# Altium footprint library 电容.PcbLib: 62 footprints (part 4 of 4)
Each footprint in its own frame and in the unit in brackets; x right, y up, seen from the top. Pads: shape width x height; smd on the part's side, far side on the other; paste and mask are expansions set on the pad; w line width, h text height; cw(c..) or ccw(c..) is an arc to the next point about the centre after c.
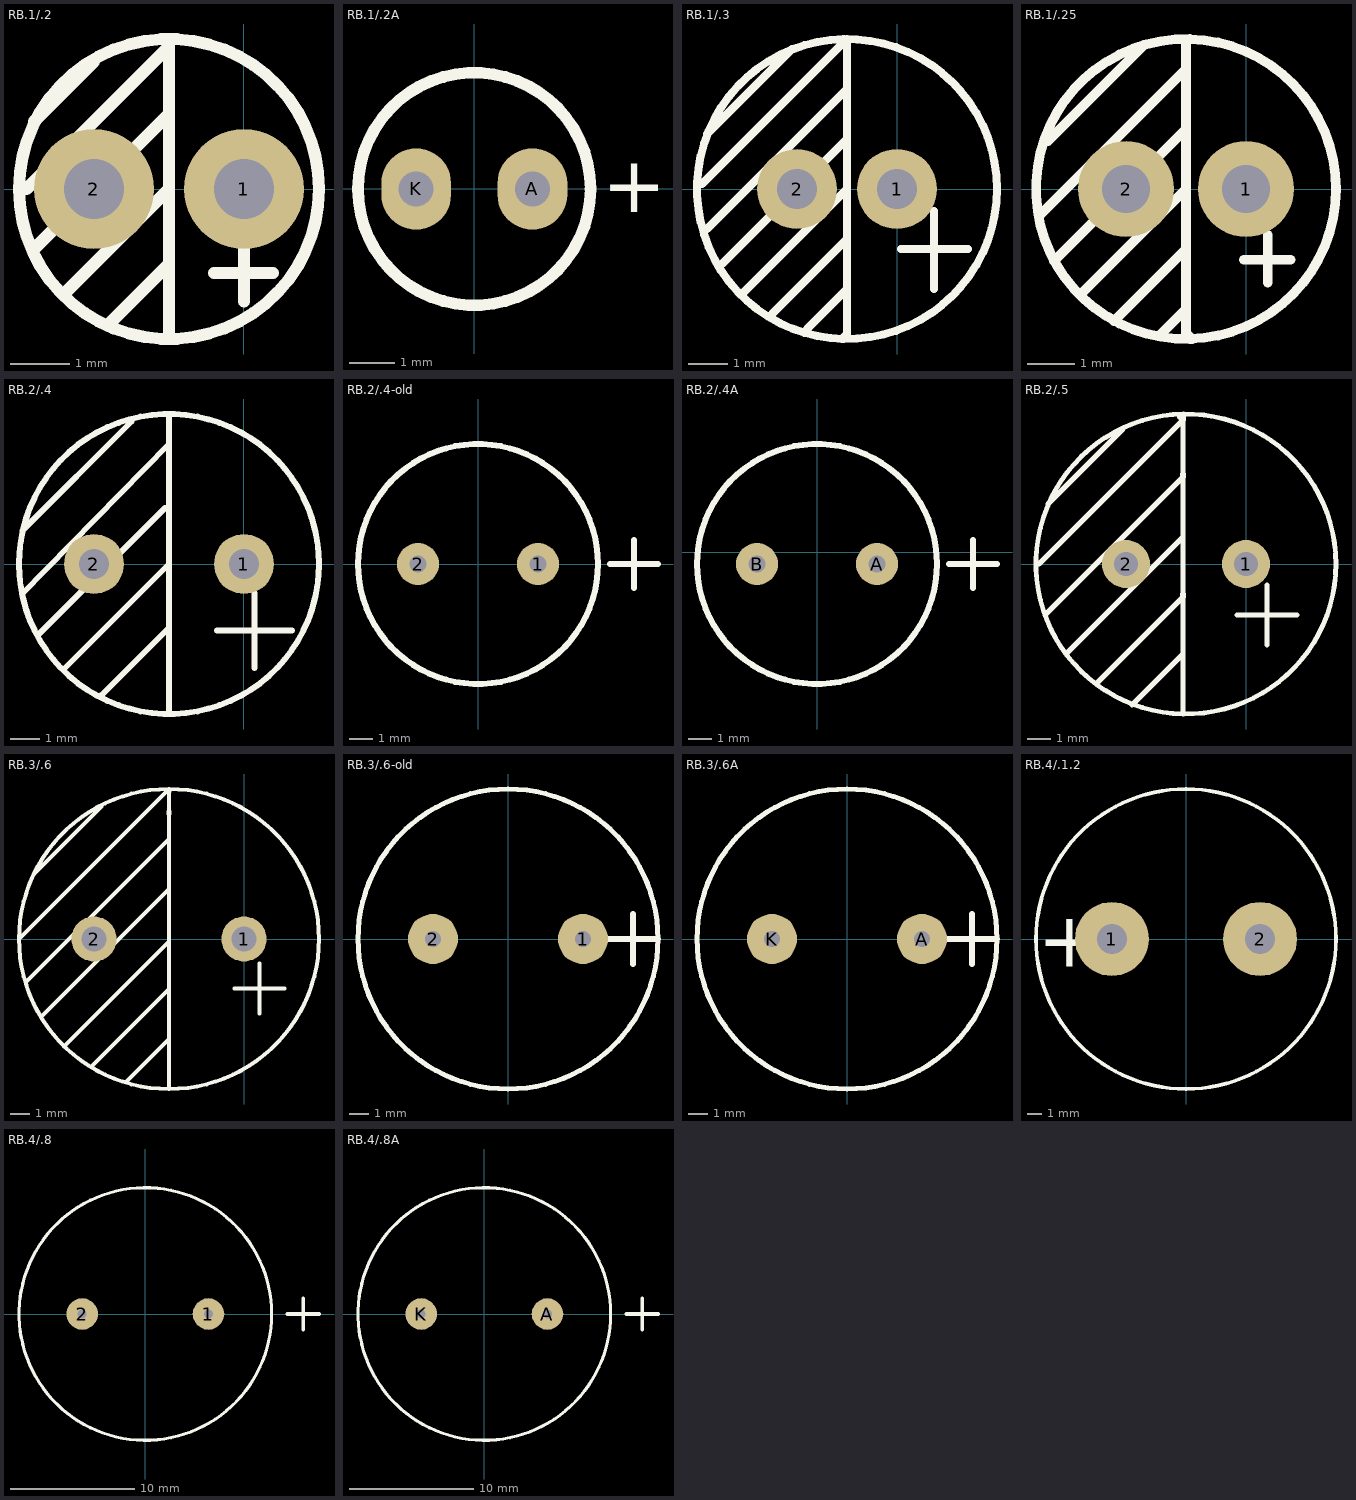
[diagram p3: the footprints below, top view; thin cyan lines are the x and y axes]

## RB.1/.2 [mil]
pads (2):
  round 80 hole 40: 1(0,0) 2(-100,0)
Top Overlay:
  circle w8: c-50,0 r100
  lines w8: -145,0 -50,95 -50,-95 ; -140,-40 -50,50 ; -140,45 -100,85 ; -120,-70 -50,0 ; -90,-90 -50,-50 ; -20,-56 19.37,-56 ; 0,-75 0,-35

## RB.1/.2A [mil]
pads (2):
  oval 60x70 hole 30: A(50,0) K(-50,0)
Top Overlay:
  circle w10: c0,0 r100
  text "+" at 110,-20 h48

## RB.1/.3 [mil]
pads (2):
  round 80 hole 40: 1(0,0) 2(-100,0)
Top Overlay:
  circle w8: c-50,0 r150
  lines w8: -195,5 -50,150 -50,-145 -55,-150 ; -190,-40 -50,100 ; -190,55 -105,140 ; -175,-75 -50,50 ; -155,-105 -50,0 ; -125,-125 -50,-50 ; -90,-140 -50,-100 ; 4,-60 71,-60 ; 37,-100 37,-22

## RB.1/.25 [mil]
pads (2):
  round 80 hole 40: 1(0,0) 2(-100,0)
Top Overlay:
  circle w8: c-50,0 r125
  lines w8: -170,-20 -50,100 ; -165,40 -85,120 ; -160,-60 -50,50 ; -135,-85 -50,0 ; -110,-110 -50,-50 ; -70,-120 -50,-100 -50,-105 ; -50,120 -50,-120 -45,-125 ; -2,-59 37.37,-59 ; 18,-78 18,-38

## RB.2/.4 [mil]
pads (2):
  round 80 hole 40: 1(0,0) 2(-200,0)
Top Overlay:
  circle w8: c-100,0 r200
  lines w8: -296,-40 -100,160 ; -295,45 -150,190 ; -275,-95 -105,75 -100,75 ; -240,-140 -100,0 ; -190,-175 -100,-85 ; -100,-200 -100,200 ; -36,-89 64,-89 ; 14,-139 14,-39

## RB.2/.4-old [mil]
pads (2):
  round 70 hole 28: 1(100,0) 2(-100,0)
Top Overlay:
  circle w10: c0,0 r200
  lines w10: 220,0 300,0 ; 260,-40 260,40

## RB.2/.4A [mil]
pads (2):
  round 70 hole 28: A(100,-20) B(-100,-20)
Top Overlay:
  circle w10: c0,-20 r200
  lines w10: 220,-20 300,-20 ; 260,-60 260,20

## RB.2/.5 [mil]
pads (2):
  round 80 hole 40: 1(0,0) 2(-200,0)
Top Overlay:
  circle w8: c-100,0 r250
  lines w8: -345,0 -105,240 ; -335,-85 -105,145 ; -330,100 -205,225 ; -300,-150 -105,45 ; -250,-200 -105,-55 ; -190,-235 -105,-150 ; -105,-250 -105,245 ; -15,-85 85,-85 ; 35,-135 35,-35
  lines w10: -110,245 -105,245 -105,240 ; -105,-55 -105,-50 ; -105,145 -105,150

## RB.3/.6 [mil]
pads (2):
  round 90 hole 50: 1(0,0) 2(-300,0)
Top Overlay:
  circle w8: c-150,0 r300
  lines w8: -450,0 -155,295 ; -435,-85 -150,200 ; -420,130 -285,265 ; -405,-155 -150,100 ; -360,-215 -150,-5 ; -305,-255 -150,-100 ; -235,-285 -150,-200 ; -150,-300 -150,295 ; -19,-99 81,-99 ; 31,-149 31,-49
  lines w10: -155,295 -150,295 ; -150,250 -150,255

## RB.3/.6-old [mil]
pads (2):
  round 100 hole 32: 1(150,0) 2(-150,0)
Top Overlay:
  circle w10: c0,0 r300
  lines w12: 200,0 300,0 ; 250,-50 250,50

## RB.3/.6A [mil]
pads (2):
  round 100 hole 32: A(150,0) K(-150,0)
Top Overlay:
  circle w10: c0,0 r300
  lines w12: 200,0 300,0 ; 250,-50 250,50

## RB.4/.1.2 [mil]
pads (2):
  round 200 hole 80: 1(-200,0) 2(200,0)
Top Overlay:
  circle w10: c0,0 r405.25
  text "+" at -400,-75 h150

## RB.4/.8 [mil]
pads (2):
  round 100 hole 28: 1(200,0) 2(-200,0)
Top Overlay:
  circle w10: c0,0 r400
  lines w12: 450,0 550,0 ; 500,-50 500,50

## RB.4/.8A [mil]
pads (2):
  round 100 hole 28: A(200,0) K(-200,0)
Top Overlay:
  circle w10: c0,0 r400
  lines w12: 450,0 550,0 ; 500,-50 500,50